# Altium footprint library PcbLib.PcbLib: 17 footprints (part 1 of 2)
Each footprint in its own frame and in the unit in brackets; x right, y up, seen from the top. Pads: shape width x height; smd on the part's side, far side on the other; paste and mask are expansions set on the pad; w line width, h text height; cw(c..) or ccw(c..) is an arc to the next point about the centre after c.
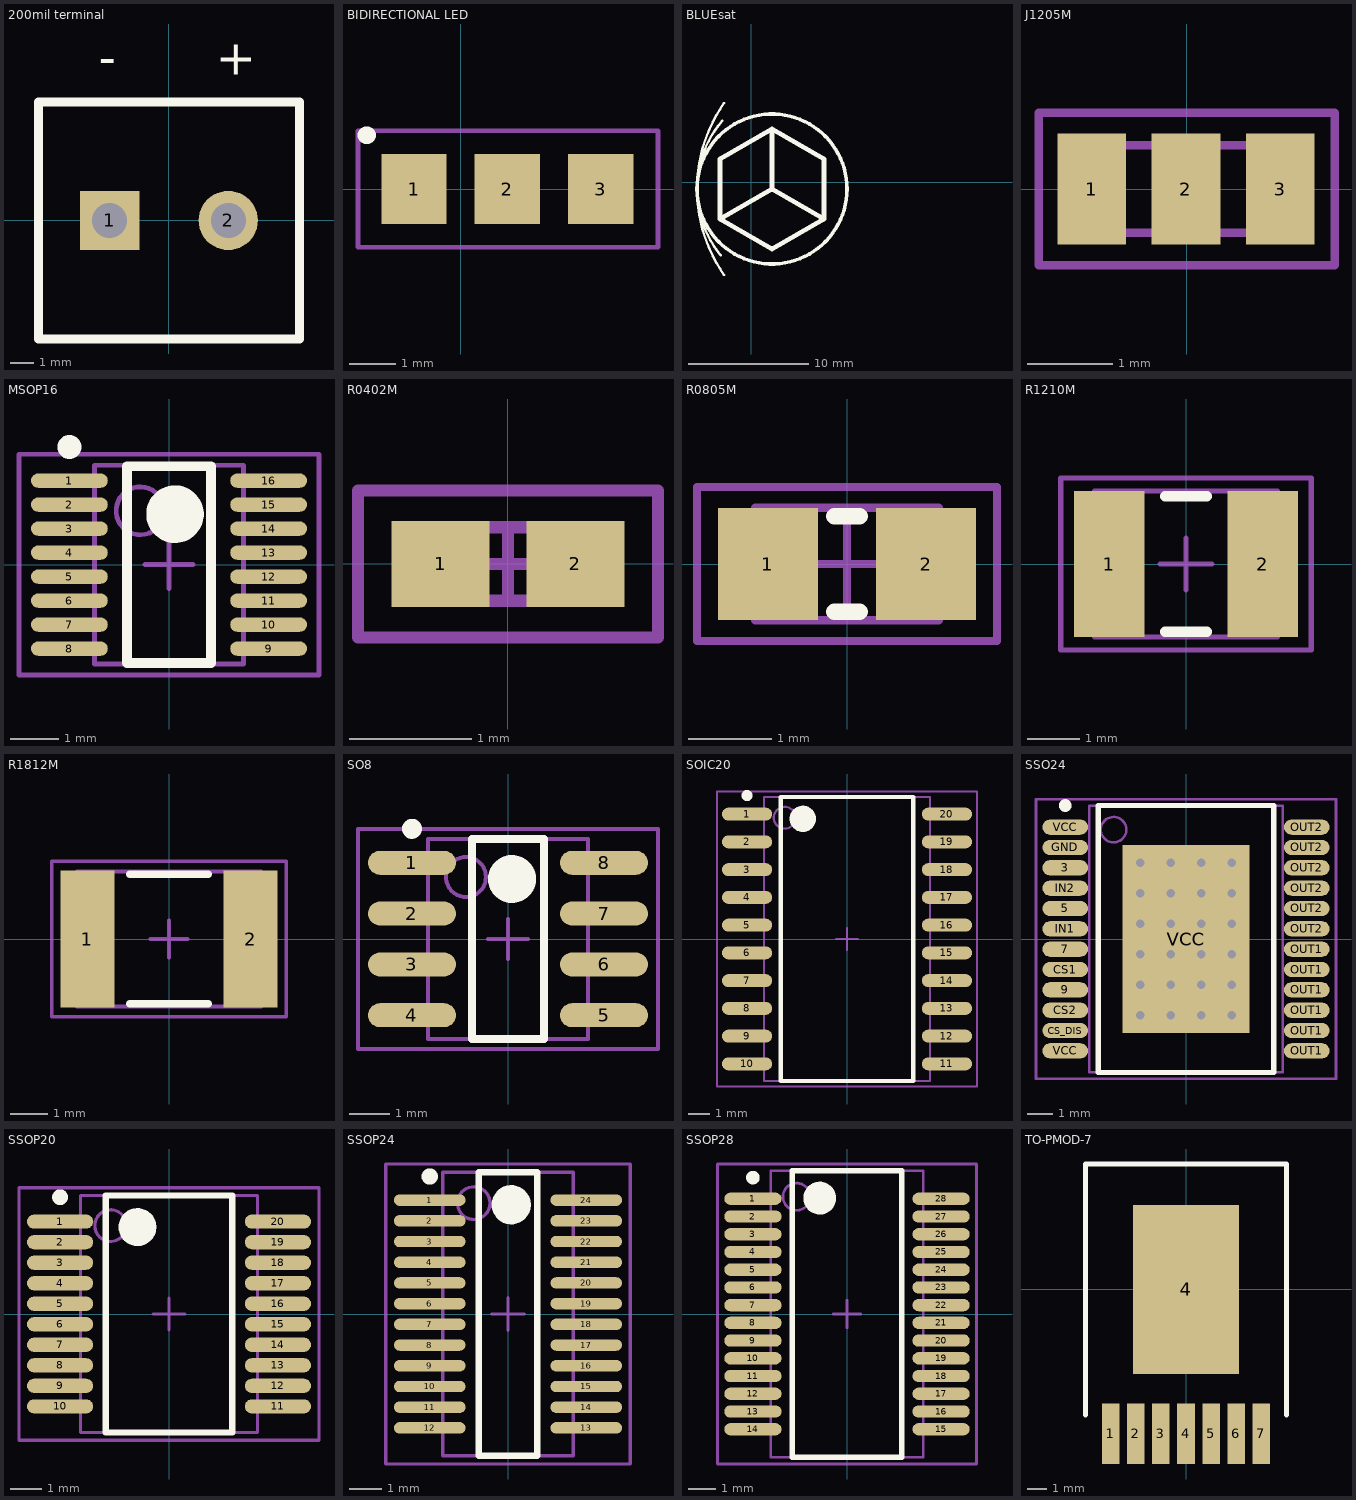
[diagram p0: the footprints below, top view; thin cyan lines are the x and y axes]

## 200mil terminal [mm]
height 5
pads (2):
  rect 2.54x2.54 hole 1.5: 1(-2.54,0)
  round 2.54 hole 1.5: 2(2.54,0)
Top Overlay:
  lines w0.381: -5.588,-5.08 -5.588,5.08 5.588,5.08 5.588,-5.08 0,-5.08 -5.588,-5.08
  text "-" at -3,6.25 h1.52
  text "+" at 2,6.25 h1.52

## BIDIRECTIONAL LED [mm]
height 0.7
pads (3):
  rect 1.4x1.5 smd: 1(-1,0) 2(1,0) 3(3,0)
Top Overlay:
  lines w0.381: -2.025,1.15 -2,1.15
Mechanical 15:
  lines w0.1: 2.2,1.25 -2.2,1.25 -2.2,-1.25 4.225,-1.25
  lines w0.102: 2.15,1.25 4.225,1.25 4.225,-1.25

## BLUEsat [mm]
Top Overlay:
  circle w0.3: c1.746,-0.552 r6.25
  lines w0.2: -2.537,-6.079 cw(c4.246,-0.552) -2.415,5.122 ; -2.243,-7.722 cw(c7.996,-0.552) -2.243,6.618
  lines w0.4: -2.584,-3.052 -2.584,1.948 1.746,4.448 ; -2.584,-3.052 1.746,-5.552 6.076,-3.052 ; -2.584,-3.052 1.746,-0.552 ; 1.746,-0.552 6.076,-3.052 ; 1.746,-0.552 1.746,4.448 ; 1.746,4.448 6.076,1.948 6.076,-3.052

## J1205M [mm] "Chip Resistor, 2-Leads, Body 1.0x0.5mm, IPC Medium Density"
height 0.6
pads (3):
  rect 0.8x1.3 smd: 1(-1.109,0) 2(-0.009,0) 3(1.091,0)
Top Solder:
  rectangle: -1.6,-0.737 1.575,0.737
Mechanical 13:
  lines w0.1: -1.321,-0.508 -1.321,0.508 1.346,0.508 1.346,-0.508 -1.321,-0.508
Mechanical 15:
  lines w0.1: -1.727,-0.889 -1.727,0.889 1.727,0.889 1.727,-0.889 -1.727,-0.889
3D body: height 0.6, standoff 0, extent -1.321,-0.508 1.346,0.508

## MSOP16 [mm] "TSSOP, 16-Leads, Body 4.1x3.1mm (max), Pitch 0.50mm, IPC Medium Density"
height 1.1
pads (16):
  oval 1.6x0.3 smd: 1(-2.075,1.75) 2(-2.075,1.25) 3(-2.075,0.75) 4(-2.075,0.25) 5(-2.075,-0.25) 6(-2.075,-0.75) 7(-2.075,-1.25) 8(-2.075,-1.75) 9(2.075,-1.75) 10(2.075,-1.25) 11(2.075,-0.75) 12(2.075,-0.25) 13(2.075,0.25) 14(2.075,0.75) 15(2.075,1.25) 16(2.075,1.75)
Top Overlay:
  circle w0.25: c-2.075,2.45 r0.125
  circle w0.6: c0.125,1.05 r0.3
  lines w0.2: -0.875,-2.05 -0.875,2.05 0.875,2.05 0.875,-2.05 -0.875,-2.05
Mechanical 13:
  circle w0.1: c-0.6,1.12 r0.5
  lines w0.1: -1.55,-2.07 -1.55,2.07 1.55,2.07 1.55,-2.07 -1.55,-2.07
Mechanical 15:
  lines w0.1: -0.5,0 0.5,0 ; 0,-0.5 0,0.5 ; -3.125,-2.3 -3.125,2.3 3.125,2.3 3.125,-2.3 -3.125,-2.3
3D body: height 1.1, standoff 0.1, extent -1.55,-2.07 1.55,2.07

## R0402M [mm] "Chip Resistor, 2-Leads, Body 1.0x0.5mm, IPC Medium Density"
height 0.6
pads (2):
  rect 0.8x0.7 smd: 1(-0.55,0) 2(0.55,0)
Mechanical 13:
  lines w0.1: -0.55,-0.3 0.55,-0.3 0.55,0.3 -0.55,0.3 -0.55,-0.3
Mechanical 15:
  lines w0.1: -0.3,0 0.3,0 ; 0,-0.3 0,0.3 ; -1.225,-0.6 1.225,-0.6 1.225,0.6 -1.225,0.6 -1.225,-0.6
3D body: height 0.6, standoff 0, extent -0.55,-0.3 0.55,0.3

## R0805M [mm] "Chip Resistor, 2-Leads, Body 2.0x1.3mm, IPC Medium Density"
height 0.6
pads (2):
  rect 1.2x1.35 smd: 1(-0.95,0) 2(0.95,0)
Top Overlay:
  lines w0.2: -0.15,-0.575 0.15,-0.575 ; -0.15,0.575 0.15,0.575
Mechanical 13:
  lines w0.1: -1.1,-0.675 1.1,-0.675 1.1,0.675 -1.1,0.675 -1.1,-0.675
Mechanical 15:
  lines w0.1: -0.5,0 0.5,0 ; 0,-0.5 0,0.5 ; -1.8,-0.925 1.8,-0.925 1.8,0.925 -1.8,0.925 -1.8,-0.925
3D body: height 0.6, standoff 0, extent -1.1,-0.675 1.1,0.675

## R1210M [mm] "Chip Capacitor, 2-Leads, Body 3.2x2.5mm, IPC Medium Density"
height 1.5
pads (2):
  rect 1.35x2.8 smd: 1(-1.475,0) 2(1.475,0)
Top Overlay:
  lines w0.2: -0.4,-1.3 0.4,-1.3 ; -0.4,1.3 0.4,1.3
Mechanical 13:
  lines w0.1: -1.75,-1.4 1.75,-1.4 1.75,1.4 -1.75,1.4 -1.75,-1.4
Mechanical 15:
  lines w0.1: -0.5,0 0.5,0 ; 0,-0.5 0,0.5 ; -2.4,-1.65 2.4,-1.65 2.4,1.65 -2.4,1.65 -2.4,-1.65
3D body: height 1.5, standoff 0, extent -1.75,-1.4 1.75,1.4

## R1812M [mm]
height 2
pads (2):
  rect 1.45x3.65 smd: 1(-2.175,0) 2(2.175,0)
Top Overlay:
  lines w0.2: -1.05,-1.725 1.05,-1.725 ; -1.05,1.725 1.05,1.725
Mechanical 13:
  lines w0.1: -2.45,-1.8 2.45,-1.8 2.45,1.8 -2.45,1.8 -2.45,-1.8
Mechanical 15:
  lines w0.1: -0.5,0 0.5,0 ; 0,-0.5 0,0.5 ; -3.125,-2.075 3.125,-2.075 3.125,2.075 -3.125,2.075 -3.125,-2.075
3D body: height 2, standoff 0, extent -2.45,-1.8 2.45,1.8

## SO8 [mm]
height 1.8
pads (8):
  oval 2.2x0.6 smd: 1(-2.4,1.905) 2(-2.4,0.635) 3(-2.4,-0.635) 4(-2.4,-1.905) 5(2.4,-1.905) 6(2.4,-0.635) 7(2.4,0.635) 8(2.4,1.905)
Top Overlay:
  circle w0.6: c0.1,1.5 r0.3
  circle w0.25: c-2.4,2.755 r0.125
  lines w0.2: -0.9,-2.5 0.9,-2.5 0.9,2.5 -0.9,2.5 -0.9,-2.5
Mechanical 13:
  circle w0.1: c-1.05,1.55 r0.5
  lines w0.1: -2,-2.5 2,-2.5 2,2.5 -2,2.5 -2,-2.5
Mechanical 15:
  lines w0.1: -0.5,0 0.5,0 ; 0,-0.5 0,0.5 ; -3.75,-2.75 3.75,-2.75 3.75,2.75 -3.75,2.75 -3.75,-2.75
3D body: height 1.8, standoff 0.1, extent -2,-2.5 2,2.5

## SOIC20 [mm] "SOIC, 20-Leads, Body 13.0x7.6mm (max), Pitch 1.27mm, IPC Medium Density"
height 2.65
pads (20):
  oval 2.3x0.6 smd: 1(-4.575,5.715) 2(-4.575,4.445) 3(-4.575,3.175) 4(-4.575,1.905) 5(-4.575,0.635) 6(-4.575,-0.635) 7(-4.575,-1.905) 8(-4.575,-3.175) 9(-4.575,-4.445) 10(-4.575,-5.715) 11(4.575,-5.715) 12(4.575,-4.445) 13(4.575,-3.175) 14(4.575,-1.905) 15(4.575,-0.635) 16(4.575,0.635) 17(4.575,1.905) 18(4.575,3.175) 19(4.575,4.445) 20(4.575,5.715)
Top Overlay:
  circle w0.25: c-4.575,6.565 r0.125
  circle w0.6: c-2.025,5.5 r0.3
  lines w0.2: -3.025,-6.5 -3.025,6.5 3.025,6.5 3.025,-6.5 -3.025,-6.5
Mechanical 13:
  circle w0.1: c-2.85,5.55 r0.5
  lines w0.1: -3.8,-6.5 -3.8,6.5 3.8,6.5 3.8,-6.5 -3.8,-6.5
Mechanical 15:
  lines w0.1: -0.5,0 0.5,0 ; 0,-0.5 0,0.5 ; -5.95,-6.75 -5.95,6.75 5.95,6.75 5.95,-6.75 -5.95,-6.75
3D body: height 2.65, standoff 0.1, extent -3.8,-6.5 3.8,6.5

## SSO24 [mm]
height 2.45
pads (25):
  oval 1.8x0.6 smd: 3(-4.75,2.8) 5(-4.75,1.2) 7(-4.75,-0.4) 9(-4.75,-2) CS1(-4.75,-1.2) CS2(-4.75,-2.8) CS_DIS(-4.75,-3.6) GND(-4.75,3.6) IN1(-4.75,0.4) IN2(-4.75,2) OUT1(4.75,-4.4) OUT1(4.75,-3.6) OUT1(4.75,-2.8) OUT1(4.75,-2) OUT1(4.75,-1.2) OUT1(4.75,-0.4) OUT2(4.75,0.4) OUT2(4.75,1.2) OUT2(4.75,2) OUT2(4.75,2.8) OUT2(4.75,3.6) OUT2(4.75,4.4) VCC(-4.75,-4.4) VCC(-4.75,4.4)
  rect 5x7.4 smd: VCC(0,0)
via 1.8,-3 diameter 0.66 hole 0.33
via 0.6,-3 diameter 0.66 hole 0.33
via -0.6,-3 diameter 0.66 hole 0.33
via -1.8,-3 diameter 0.66 hole 0.33
via 1.8,-1.8 diameter 0.66 hole 0.33
via 0.6,-1.8 diameter 0.66 hole 0.33
via -0.6,-1.8 diameter 0.66 hole 0.33
via -1.8,-1.8 diameter 0.66 hole 0.33
via 1.8,-0.6 diameter 0.66 hole 0.33
via 0.6,-0.6 diameter 0.66 hole 0.33
via -0.6,-0.6 diameter 0.66 hole 0.33
via -1.8,-0.6 diameter 0.66 hole 0.33
via 1.8,0.6 diameter 0.66 hole 0.33
via 0.6,0.6 diameter 0.66 hole 0.33
via -0.6,0.6 diameter 0.66 hole 0.33
via -1.8,0.6 diameter 0.66 hole 0.33
via 1.8,1.8 diameter 0.66 hole 0.33
via 0.6,1.8 diameter 0.66 hole 0.33
via -0.6,1.8 diameter 0.66 hole 0.33
via -1.8,1.8 diameter 0.66 hole 0.33
via 1.8,3 diameter 0.66 hole 0.33
via 0.6,3 diameter 0.66 hole 0.33
via -0.6,3 diameter 0.66 hole 0.33
via -1.8,3 diameter 0.66 hole 0.33
Top Overlay:
  circle w0.25: c-4.75,5.25 r0.125
  lines w0.2: -3.45,-5.25 3.45,-5.25 3.45,5.25 -3.45,5.25 -3.45,-5.25
Mechanical 13:
  circle w0.1: c-2.85,4.3 r0.5
  lines w0.1: -3.8,-5.25 3.8,-5.25 3.8,5.25 -3.8,5.25 -3.8,-5.25
Mechanical 15:
  lines w0.1: -0.5,0 0.5,0 ; 0,-0.5 0,0.5 ; -5.9,-5.5 5.9,-5.5 5.9,5.5 -5.9,5.5 -5.9,-5.5
3D body: height 2.45, standoff 0.1, extent -3.8,-5.25 3.8,5.25

## SSOP20 [mm]
height 2
pads (20):
  oval 2.1x0.45 smd: 1(-3.45,2.925) 2(-3.45,2.275) 3(-3.45,1.625) 4(-3.45,0.975) 5(-3.45,0.325) 6(-3.45,-0.325) 7(-3.45,-0.975) 8(-3.45,-1.625) 9(-3.45,-2.275) 10(-3.45,-2.925) 11(3.45,-2.925) 12(3.45,-2.275) 13(3.45,-1.625) 14(3.45,-0.975) 15(3.45,-0.325) 16(3.45,0.325) 17(3.45,0.975) 18(3.45,1.625) 19(3.45,2.275) 20(3.45,2.925)
Top Overlay:
  circle w0.6: c-1,2.75 r0.3
  circle w0.25: c-3.45,3.7 r0.125
  lines w0.2: -2,-3.75 2,-3.75 2,3.75 -2,3.75 -2,-3.75
Mechanical 13:
  circle w0.1: c-1.85,2.8 r0.5
  lines w0.1: -2.8,-3.75 2.8,-3.75 2.8,3.75 -2.8,3.75 -2.8,-3.75
Mechanical 15:
  lines w0.1: -0.5,0 0.5,0 ; 0,-0.5 0,0.5 ; -4.75,-4 4.75,-4 4.75,4 -4.75,4 -4.75,-4
3D body: height 2, standoff 0.1, extent -2.8,-3.75 2.8,3.75

## SSOP24 [mm]
height 1.1
pads (24):
  oval 2.2x0.35 smd: 1(-2.4,3.492) 2(-2.4,2.857) 3(-2.4,2.222) 4(-2.4,1.587) 5(-2.4,0.953) 6(-2.4,0.318) 7(-2.4,-0.318) 8(-2.4,-0.953) 9(-2.4,-1.587) 10(-2.4,-2.222) 11(-2.4,-2.857) 12(-2.4,-3.492) 13(2.4,-3.492) 14(2.4,-2.857) 15(2.4,-2.222) 16(2.4,-1.587) 17(2.4,-0.953) 18(2.4,-0.318) 19(2.4,0.318) 20(2.4,0.953) 21(2.4,1.587) 22(2.4,2.222) 23(2.4,2.857) 24(2.4,3.492)
Top Overlay:
  circle w0.25: c-2.4,4.217 r0.125
  circle w0.6: c0.1,3.35 r0.3
  lines w0.2: -0.9,-4.35 -0.9,4.35 0.9,4.35 0.9,-4.35 -0.9,-4.35
Mechanical 13:
  circle w0.1: c-1.05,3.4 r0.5
  lines w0.1: -2,-4.35 -2,4.35 2,4.35 2,-4.35 -2,-4.35
Mechanical 15:
  lines w0.1: -0.5,0 0.5,0 ; 0,-0.5 0,0.5 ; -3.75,-4.6 -3.75,4.6 3.75,4.6 3.75,-4.6 -3.75,-4.6
3D body: height 1.1, standoff 0.1, extent -2,-4.35 2,4.35

## SSOP28 [mm]
height 2
pads (28):
  oval 2.1x0.45 smd: 1(-3.45,4.225) 2(-3.45,3.575) 3(-3.45,2.925) 4(-3.45,2.275) 5(-3.45,1.625) 6(-3.45,0.975) 7(-3.45,0.325) 8(-3.45,-0.325) 9(-3.45,-0.975) 10(-3.45,-1.625) 11(-3.45,-2.275) 12(-3.45,-2.925) 13(-3.45,-3.575) 14(-3.45,-4.225) 15(3.45,-4.225) 16(3.45,-3.575) 17(3.45,-2.925) 18(3.45,-2.275) 19(3.45,-1.625) 20(3.45,-0.975) 21(3.45,-0.325) 22(3.45,0.325) 23(3.45,0.975) 24(3.45,1.625) 25(3.45,2.275) 26(3.45,2.925) 27(3.45,3.575) 28(3.45,4.225)
Top Overlay:
  circle w0.6: c-1,4.25 r0.3
  circle w0.25: c-3.45,5 r0.125
  lines w0.2: -2,-5.25 2,-5.25 2,5.25 -2,5.25 -2,-5.25
Mechanical 13:
  circle w0.1: c-1.85,4.3 r0.5
  lines w0.1: -2.8,-5.25 2.8,-5.25 2.8,5.25 -2.8,5.25 -2.8,-5.25
Mechanical 15:
  lines w0.1: -0.5,0 0.5,0 ; 0,-0.5 0,0.5 ; -4.75,-5.5 4.75,-5.5 4.75,5.5 -4.75,5.5 -4.75,-5.5
3D body: height 2, standoff 0.1, extent -2.8,-5.25 2.8,5.25

## TO-PMOD-7 [mm]
height 5.08
pads (8):
  rect 0.89x3.06 smd: 1(-3.81,-7.305) 2(-2.54,-7.305) 3(-1.27,-7.305) 4(0,-7.305) 5(1.27,-7.305) 6(2.54,-7.305) 7(3.81,-7.305)
  rect 5.35x8.54 smd: 4(0,0)
Top Overlay:
  lines w0.254: -5.08,-6.35 -5.08,6.35 5.08,6.35 5.08,-6.35
3D body: height 5.08, standoff 0, extent -4.75,-5 4.75,6